# Altium footprint library RELAY 5V.PcbLib: 14 footprints
Each footprint in its own frame and in the unit in brackets; x right, y up, seen from the top. Pads: shape width x height; smd on the part's side, far side on the other; paste and mask are expansions set on the pad; w line width, h text height; cw(c..) or ccw(c..) is an arc to the next point about the centre after c.
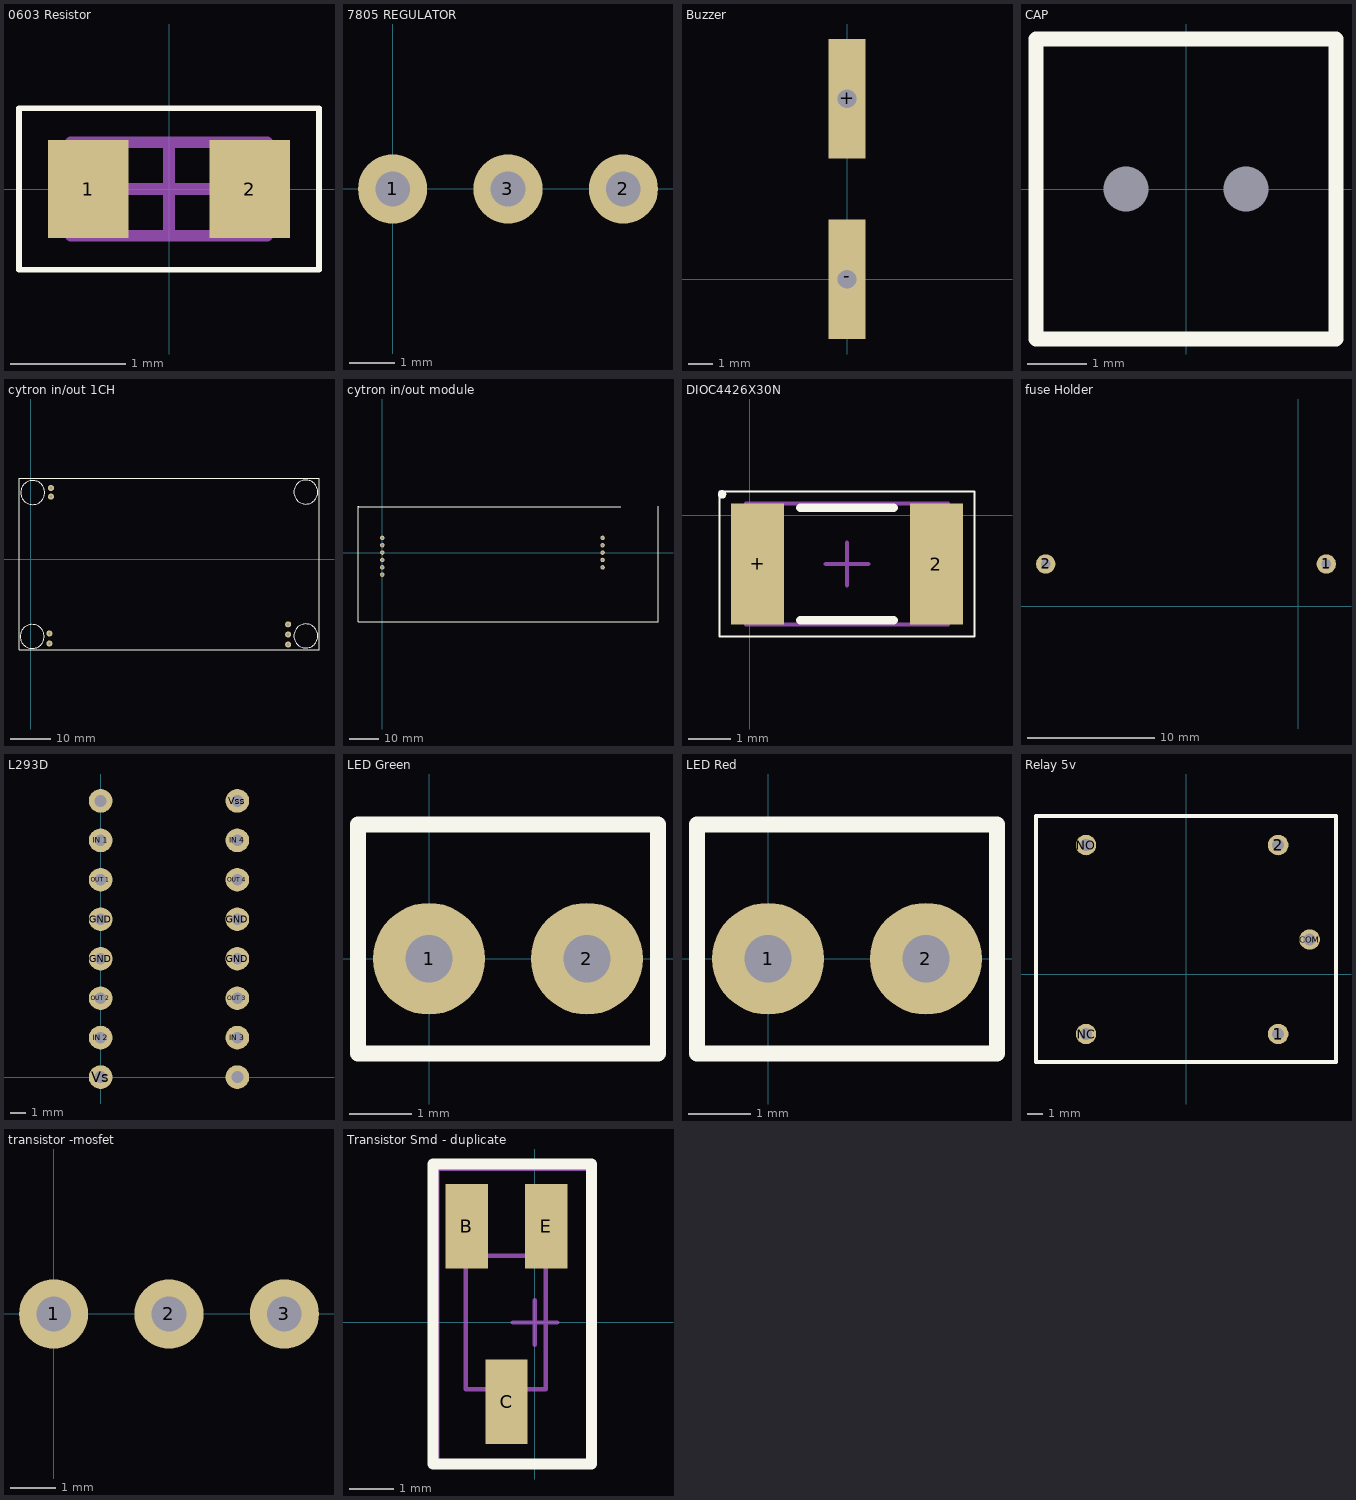
[diagram p0: the footprints below, top view; thin cyan lines are the x and y axes]

## 0603 Resistor [mm] "Chip Resistor, 2-Leads, Body 1.60x0.80mm, IPC Medium Density"
height 0.55
pads (2):
  rect 0.7x0.85 smd: 1(-0.7,0) 2(0.7,0)
Top Overlay:
  lines w0.05: -1.3,-0.7 1.3,-0.7 1.3,0.7 -1.3,0.7 -1.3,-0.7
Mechanical 13:
  lines w0.1: -0.85,-0.405 -0.85,0.405 0.85,0.405 0.85,-0.405 -0.85,-0.405
Mechanical 15:
  lines w0.1: -0.405,0 0.405,0 ; 0,-0.405 0,0.405
3D body: height 0.55, standoff 0, extent -0.85,-0.405 -0.6,0.405
3D body: height 0.55, standoff 0, extent 0.6,-0.405 0.85,0.405
3D body "CircuitWorks-RESISTOR 0603.STEP": height 0.53, standoff 0.02, extent -0.8,-0.43 0.8,0.43

## 7805 REGULATOR [mil]
pads (3):
  round 60 hole 30: 1(0,0) 2(200,0) 3(100,0)
3D body "lm7805ct.stp": height 895.27, standoff -237.87, extent -100,-110 300,70

## Buzzer [mm]
pads (2):
  rect 1.5x4.9 hole 0.762: +(0,7.4) -(0,0)
3D body "CircuitWorks-BUZZER (SPEAKER) SMD.STEP": height 4, standoff -0.02, extent -4.562,-2.467 5.588,9.833

## CAP [mil]
pads (2):
  round 1.97 hole 30: 1(-40,0) +(40,0)
Top Overlay:
  lines w10: -100,-100 100,-100 100,100 -100,100 -100,-100
3D body "CircuitWorks-CAPACITOR- PANASONIC M SERIES.STEP": height 433.07, standoff -196.85, extent -98.42,-98.42 98.43,98.43

## cytron in/out 1CH [mil]
pads (7):
  round 60 hole 30: 1(185,-830) 2(185,-730) 3(200,620) 4(200,705) 5(2540,-640) 6(2540,-740) 7(2540,-840)
Top Overlay:
  circle w10: c15,-760 r118.11
  circle w10: c2715,-755 r118.11
  circle w10: c2715,665 r118.11
  circle w10: c20,660 r118.11
  lines w10: -115,-890 -115,800 2845,800 2845,-740 2845,-890 -115,-890

## cytron in/out module [mil]
pads (11):
  round 60 hole 30: 1(0,-300) 2(0,-200) 3(0,-100) 4(0,0) 5(0,100) 6(0,200) 7(2992.13,200) 8(2992.13,100) 9(2992.13,0) 10(2992.13,-100) 11(2992.13,-200)
Top Overlay:
  lines w10: 3240,625 -325,625 -330,630 -330,-940 3745,-940 3745,630

## DIOC4426X30N [mm] "Chip Diode, 2-Leads, Body 4.37x2.62mm, IPC Medium Density"
height 1
pads (2):
  rect 1.25x2.85 smd: 2(4.386,-1.143) +(0.186,-1.143)
Top Overlay:
  circle w0.1: c-0.651,0.494 r0.05
  lines w0.05: -0.714,-2.843 5.286,-2.843 5.286,0.557 -0.714,0.557 -0.714,-2.843
  lines w0.2: 1.186,-2.468 3.386,-2.468 ; 1.186,0.182 3.386,0.182
Mechanical 13:
  lines w0.1: -0.089,-2.563 -0.089,0.277 4.661,0.277 4.661,-2.563 -0.089,-2.563
Mechanical 15:
  lines w0.1: 1.786,-1.143 2.786,-1.143 ; 2.286,-1.643 2.286,-0.643
3D body: height 2.95, standoff 0, extent -0.089,-2.563 0.241,0.277
3D body: height 2.95, standoff 0, extent 4.331,-2.563 4.661,0.277
3D body "User Library-Diode Molded Body.STEP": height 2.65, standoff -0.05, extent -0.214,-2.397 4.786,0.043

## fuse Holder [mil]
pads (2):
  round 60 hole 30: 1(86.14,130) 2(-780,130)
3D body "User Library-BLX-A Fuse Holder.step": height 514.4, standoff -157.48, extent -889.99,-57.95 179.99,320

## L293D [mil]
pads (16):
  round 60 hole 30: Enable(0,700) "Enable 2"(346.46,0) GND(0,300) GND(0,400) GND(346.46,300) GND(346.46,400) "IN 1"(0,600) "IN 2"(0,100) "IN 3"(346.46,100) "IN 4"(346.46,600) "OUT 1"(0,500) "OUT 2"(0,200) "OUT 3"(346.46,200) "OUT 4"(346.46,500) Vs(0,0) Vss(346.46,700)
3D body "l293d.stp": height 209.41, standoff -120.59, extent -10,-32.5 353.53,732.5

## LED Green [mm]
pads (2):
  round 1.8 hole 0.762: 1(0,0) 2(2.54,0)
Top Overlay:
  lines w0.254: -1.143,-1.524 3.683,-1.524 3.683,2.159 -1.143,2.159 -1.143,-1.524
3D body "CircuitWorks-GREENLED.STEP": height 5.38, standoff -3.17, extent -0.724,-1.461 3.264,2.032

## LED Red [mm]
pads (2):
  round 1.8 hole 0.762: 1(0,0) 2(2.54,0)
Top Overlay:
  lines w0.254: -1.143,-1.524 3.683,-1.524 3.683,2.159 -1.143,2.159 -1.143,-1.524
3D body "CircuitWorks-REDLED.STEP": height 5.38, standoff -3.17, extent -0.724,-1.46 3.264,2.032

## Relay 5v [mm]
pads (5):
  round 1.3 hole 0.762: 1(5.85,-3.81) 2(5.85,8.19) COM(7.85,2.19) NC(-6.35,-3.81) NO(-6.35,8.19)
Top Overlay:
  lines w0.254: -9.525,-5.588 -9.525,10.033 9.525,10.033 9.525,-5.588 -9.525,-5.588
3D body "User Library-Relay-943-1C-5DS.STEP": height 15.5, standoff -4.5, extent -9.45,-5.464 9.45,10.036

## transistor -mosfet [mil]
pads (3):
  round 60 hole 30: 1(0,0) 2(100,0) 3(200,0)
3D body "User Library-Transistors TO-220 FULLPAK 3-PIN.STEP": height 861.02, standoff -299.21, extent -100,-65 300,120.04

## Transistor Smd - duplicate [mm] "TO, 4-Pads, Body 4.00x4.86mm (max), IPC Medium Density"
height 1.3
pads (3):
  rect 0.95x1.9 smd: B(-1.524,2.159) C(-0.635,-1.778) E(0.254,2.159)
Top Overlay:
  lines w0.254: -2.286,-3.175 1.27,-3.175 1.27,3.556 -2.286,3.556 -2.286,-3.175
Mechanical 13:
  lines w0.1: -1.55,-1.5 -1.55,1.5 0.25,1.5 0.25,-1.5 -1.55,-1.5
Mechanical 15:
  lines w0.05: -2.159,-3.175 -2.159,3.429 1.27,3.429 1.27,-3.175 -2.159,-3.175
  lines w0.1: -0.5,0 0.5,0 ; 0,-0.5 0,0.5
3D body "User Library-transistor SOT233.STEP": height 0.94, standoff -0.16, extent -2.085,-1.27 0.815,1.53